# Altium schematic symbol library N-ch JFET.SchLib: 1 symbol
Pins are listed as number, name and electrical type; pins without a type are passive.

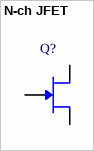
[diagram p0: symbol N-ch JFET]

## N-ch JFET
designator Q?
N-ch JFET
pins: 1 D, 2 S, 3 G